# EAGLE library part SIM800L (library SIM800L)
SIM800L Blue EVB Board with Level Translation and diode dropper.
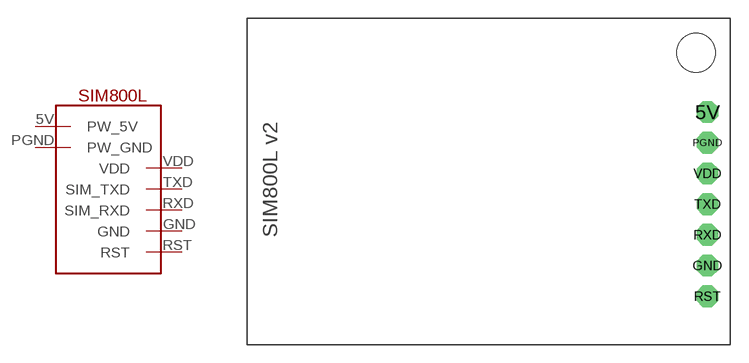
[diagram p0: symbol with the pads of SIP; footprint SIP]

Designator prefix -

## SIM800L  [SIP]
5V  PW_5V
GND  GND
PGND  PW_GND
RST  RST
RXD  SIM_RXD
TXD  SIM_TXD
VDD  VDD

## Footprint SIP (pad centres in mm)
SIM800L v2
drill 1.2 octagon: 5V 38.1,19.24; GND 38.1,6.54; PGND 38.1,16.7; RST 38.1,4; RXD 38.1,9.08; TXD 38.1,11.62; VDD 38.1,14.16
hole 3.2 at 37.16,24.13